# EAGLE library part L298 (library SparkFun-IC-Special-Function)
L298 Dual Full Bridge Driver
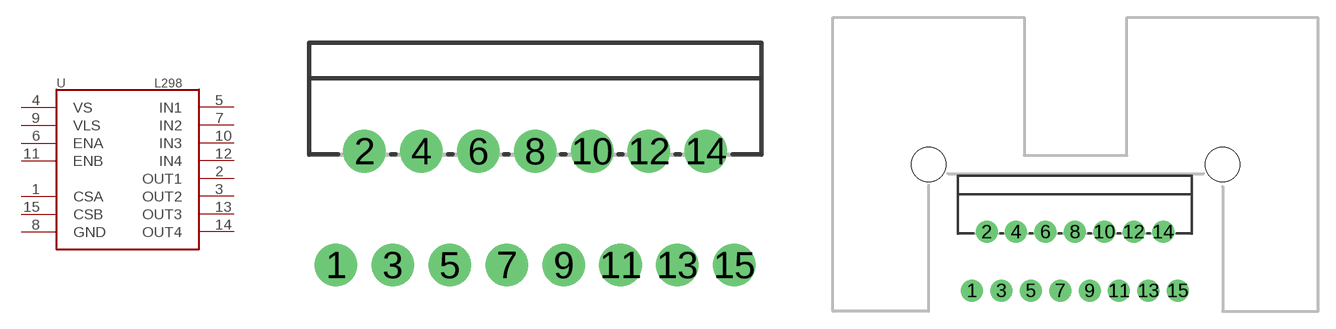
[diagram p20: symbol with the pads of MULTIWATT15; footprints MULTIWATT15, MULTIWATT15_6400BGHEATSINK]

Designator prefix U

## L298  [MULTIWATT15]
1  CSA
2  OUT1
3  OUT2
4  VS
5  IN1
6  ENA
7  IN2
8  GND
9  VLS
10  IN3
11  ENB
12  IN4
13  OUT3
14  OUT4
15  CSB

## L298HEATSINK  [MULTIWATT15_6400BGHEATSINK]
Pads as for MULTIWATT15

## Footprint MULTIWATT15 (pad centres in mm)
Multiwatt15V package for the L298 dual full bridge driver
drill 1.1 pad 1.9: 1 -8.95,-2.39; 2 -7.68,2.69; 3 -6.41,-2.39; 4 -5.14,2.69; 5 -3.87,-2.39; 6 -2.6,2.69; 7 -1.33,-2.39; 8 -0.06,2.69; 9 1.21,-2.39; 10 2.48,2.69; 11 3.75,-2.39; 12 5.02,2.69; 13 6.29,-2.39; 14 7.56,2.69; 15 8.83,-2.39

## Footprint MULTIWATT15_6400BGHEATSINK (pad centres in mm)
drill 1.1 pad 1.9: 1 -8.95,-2.39; 2 -7.68,2.69; 3 -6.41,-2.39; 4 -5.14,2.69; 5 -3.87,-2.39; 6 -2.6,2.69; 7 -1.33,-2.39; 8 -0.06,2.69; 9 1.21,-2.39; 10 2.48,2.69; 11 3.75,-2.39; 12 5.02,2.69; 13 6.29,-2.39; 14 7.56,2.69; 15 8.83,-2.39
hole 2.997 at -12.7,8.509
hole 2.997 at 12.7,8.509